# EAGLE library part PNPDUAL (library zetex)
Dual PNP TRANSISTOR
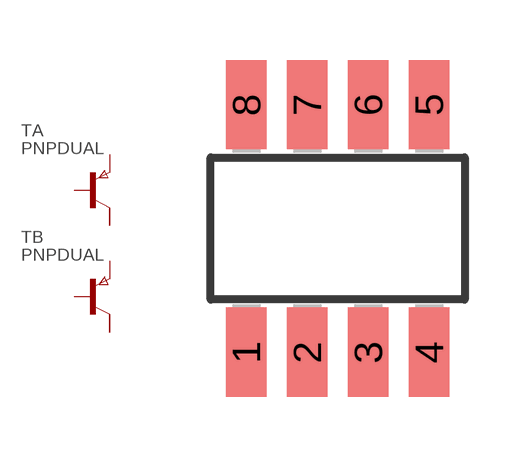
[diagram p3: symbol with the pads of SM8; footprint SM8]

Designator prefix T; gates A=PNP2C B=PNP2C

## PNPDUAL  [SM8]
1  B:E  pas
2  B:B  pas
3  A:E  pas
4  A:B  pas
5  B:C  pas
6  B:C1  pas
7  A:C  pas
8  A:C1  pas

## Footprint SM8 (pad centres in mm)
SM8 Package
smd 1.016 x 2.235: 1 -2.286,-3.099; 2 -0.762,-3.099; 3 0.762,-3.099; 4 2.286,-3.099; 5 2.286,3.099; 6 0.762,3.099; 7 -0.762,3.099; 8 -2.286,3.099